# Altium schematic symbol library Resistor.SchLib: 51 symbols (part 3 of 3)
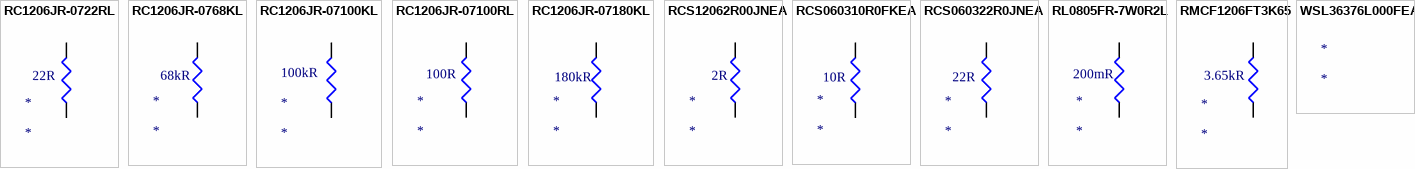
[diagram p3: symbols RC1206JR-0722RL to WSL36376L000FEA]

## WSL36376L000FEA
designator *
WSL Series 3637 3 W 0.006 Ohm ±1% ±50 ppm/°C SMT Power Metal Strip® Resistor; Manufacturer 1: Vishay Dale; Manufacturer Part Number 1: WSL36376L000FEA; Resistance: 6mR; Power Rating: 3W; Supplier 1: Mouser; Stock 1: 198; Pricing 1: 1=1,43000, 10=1,27000, 50=1,07000, 100=0,92000, 1000=0,56000, 10000=0,56000 (USD); RoHS: Yes; Case/Package: 3637; Contact Plating: Tin; Case Code (Metric): 9194; Weight: 0.010229oz; Case Code (Imperial): 3637; Size Code: 3637; Min Operating Temperature: -65°C; Max Operating Temperature: 170°C; Tolerance: 1%; Packaging: Tape and Reel; Package Quantity: 4000; Resistor Type: Metal Strip; Temperature Coefficient: 50ppm/°C; Max Power Dissipation: 3W; Termination: SMD/SMT; Features: Moisture Resistant,Automotive AEC-Q200,Anti-Sulfur; Series: WSL; Number of Terminations: 4; Length: 9.14mm; Width: 9.4mm; Height: 0.635mm; Radiation Hardening: No; Lead Free: Lead Free; RoHS Compliant: Yes; ComponentLink1URL: https://datasheet.ciiva.com/9064/wsl3637-9064007.pdf?src-supplier=Avnet; ComponentLink1Description: https://datasheet.ciiva.com/9064/wsl3637-9064007.pdf?src-supplier=Avnet; ComponentLink2URL: https://datasheet.ciiva.com/16215/wsl3637-16215263.pdf?src-supplier=Future+Electronics; ComponentLink2Description: https://datasheet.ciiva.com/16215/wsl3637-16215263.pdf?src-supplier=Future+Electronics; ComponentLink3URL: https://datasheet.ciiva.com/17193/wsl3637-17193820.pdf?src-supplier=Avnet+Europe; ComponentLink3Description: https://datasheet.ciiva.com/17193/wsl3637-17193820.pdf?src-supplier=Avnet+Europe; Supplier Part Number 1: 71-WSL36376L000FEA